# Altium schematic symbol library Connector_Generic.SchLib: 8 symbols
Pins are listed as number, name and electrical type; pins without a type are passive.

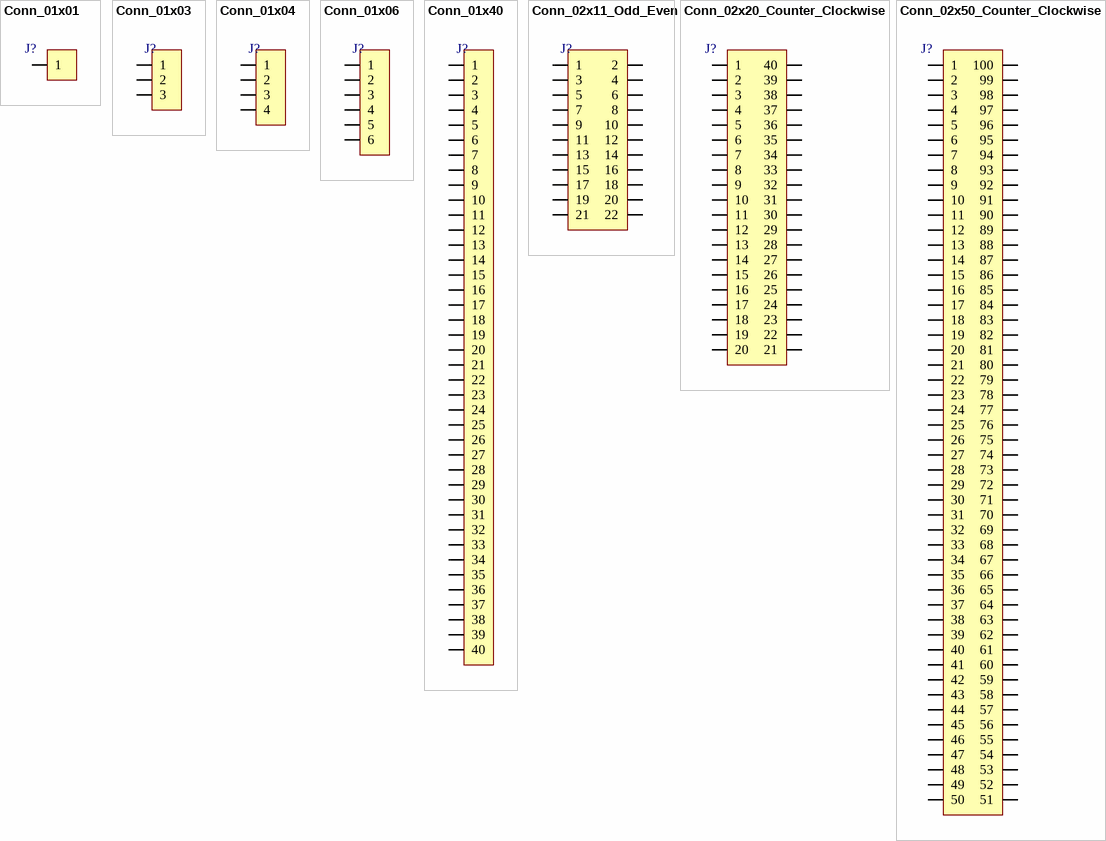
[diagram p0: symbols Conn_01x01 to Conn_02x50_Counter_Clockwise]

## Conn_01x01
designator J?  (value not drawn)
Generic connector, single row, 01x01
footprint PinHeader_1x01_P2.54mm_Horizontal
footprint PinHeader_1x01_P2.54mm_Vertical
pins: 1

## Conn_01x03
designator J?  (value not drawn)
Generic connector, single row, 01x03
footprint PinHeader_1x03_P2.54mm_Horizontal
footprint PinHeader_1x03_P2.54mm_Vertical
pins: 1, 2, 3

## Conn_01x04
designator J?  (value not drawn)
Generic connector, single row, 01x04
footprint PinHeader_1x04_P2.54mm_Horizontal
footprint PinHeader_1x04_P2.54mm_Vertical
pins: 1, 2, 3, 4

## Conn_01x06
designator J?  (value not drawn)
Generic connector, single row, 01x06
footprint PinHeader_1x06_P2.54mm_Horizontal
footprint PinHeader_1x06_P2.54mm_Vertical
pins: 1, 2, 3, 4, 5, 6

## Conn_01x40
designator J?  (value not drawn)
Generic connector, single row, 01x40
footprint PinHeader_1x40_P2.54mm_Horizontal
footprint PinHeader_1x40_P2.54mm_Vertical
pins: 1, 2, 3, 4, 5, 6, 7, 8, 9, 10, 11, 12, 13, 14, 15, 16, 17, 18, 19, 20, 21, 22, 23, 24, 25, 26, 27, 28, 29, 30, 31, 32, 33, 34, 35, 36, 37, 38, 39, 40

## Conn_02x11_Odd_Even
designator J?  (value not drawn)
Generic connector, double row, 02x11, odd/even pin numbering scheme
footprint PinSocket_2x11_P2.00mm_Vertical
pins: 1, 2, 3, 4, 5, 6, 7, 8, 9, 10, 11, 12, 13, 14, 15, 16, 17, 18, 19, 20, 21, 22

## Conn_02x20_Counter_Clockwise
designator J?  (value not drawn)
Generic connector, double row, 02x20, counter clockwise pin numbering scheme
footprint FPC_1x40_P0.5mm_H2.0mm_Filp_SMD
pins: 1, 2, 3, 4, 5, 6, 7, 8, 9, 10, 11, 12, 13, 14, 15, 16, 17, 18, 19, 20, 21, 22, 23, 24, 25, 26, 27, 28, 29, 30, 31, 32, 33, 34, 35, 36, 37, 38, 39, 40

## Conn_02x50_Counter_Clockwise
designator J?  (value not drawn)
Generic connector, double row, 02x50, counter clockwise pin numbering scheme
footprint BTB_2x50_Female_P0.5mm_H3.0mm_Vertical_SMD
pins: 1, 2, 3, 4, 5, 6, 7, 8, 9, 10, 11, 12, 13, 14, 15, 16, 17, 18, 19, 20, 21, 22, 23, 24, 25, 26, 27, 28, 29, 30, 31, 32, 33, 34, 35, 36, 37, 38, 39, 40, 41, 42, 43, 44, 45, 46, 47, 48, 49, 50, 51, 52, 53, 54, 55, 56, 57, 58, 59, 60, 61, 62, 63, 64, 65, 66, 67, 68, 69, 70, 71, 72, 73, 74, 75, 76, 77, 78, 79, 80, 81, 82, 83, 84, 85, 86, 87, 88, 89, 90, 91, 92, 93, 94, 95, 96, 97, 98, 99, 100